# Altium schematic symbol library 44268 Myrra Transformer.SchLib: 1 symbol
Pins are listed as number, name and electrical type; pins without a type are passive.

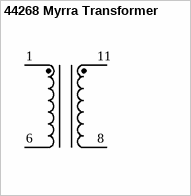
[diagram p0: symbol 44268 Myrra Transformer]

## 44268 Myrra Transformer
designator L?
farnell: 1689089
footprint 44268 MYRRA TRANSFORMER
pins: 1, 6, 8, 11